# Altium integrated library Elantec Interface Servo Motor Controller.IntLib: 8 symbols
Pins are listed as number, name and electrical type; pins without a type are passive.

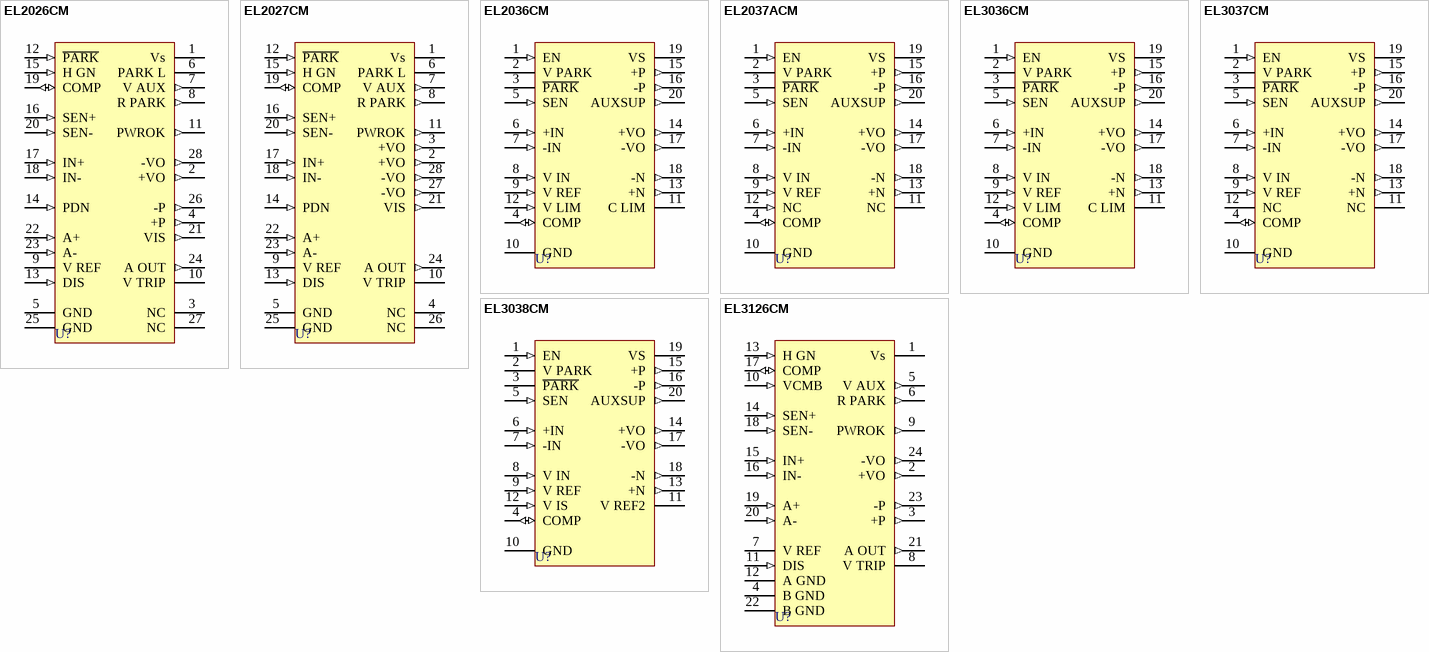
[diagram p0: symbols EL2026CM to EL3126CM]

## EL2026CM
designator U?
Low Voltage Servo Motor Driver; Note: Pins 3 and 27 are No Connection; Published: 8-Jun-2000; LatestRevisionDate: 13-Apr-2006; LatestRevisionNote: IPC-7351 Footprint Added.; DatasheetVersion: Jul-1992; PackageReference: SOL-28; Publisher: Altium Limited; PackageDescription: 28-Pin Small Outline Integrated Circuit 1.27 mm Pitch; ComponentLink1Description: Manufacturer Link; ComponentLink1URL: http://www.intersil.com/cda/home/
footprint SOL-28_N (SOIC, 28-Leads, Body 17.9x7.5mm, Pitch 1.27mm, IPC Medium Density)
footprint SOL-28_L (SOIC, 28-Leads, Body 17.9x7.5mm, Pitch 1.27mm, IPC High Density)
footprint SOL-28_M (SOIC, 28-Leads, Body 17.9x7.5mm, Pitch 1.27mm, IPC Low Density)
3D model SOL-28 (28-Pin Small Outline Integrated Circuit 1.27 mm Pitch)
pins: 1 Vs (power), 2 +VO (out), 3 NC, 4 +P (out), 5 GND (power), 6 PARK L (oc), 7 V AUX (out), 8 R PARK (out), 9 V REF, 10 V TRIP, 11 PWROK (out), 12 ~{PARK} (in), 13 DIS (in), 14 PDN (in), 15 H GN (in), 16 SEN+ (in), 17 IN+ (in), 18 IN- (in), 19 COMP (io), 20 SEN- (in), 21 VIS (out), 22 A+ (in), 23 A- (in), 24 A OUT (out), 25 GND (power), 26 -P (out), 27 NC, 28 -VO (out)

## EL2027CM
designator U?
Low Voltage Servo Motor Driver; Note: Pins 4 and 26 must be open.; Published: 8-Jun-2000; LatestRevisionDate: 13-Apr-2006; LatestRevisionNote: IPC-7351 Footprint Added.; DatasheetVersion: Jul-1992; PackageReference: SOL-28; Publisher: Altium Limited; PackageDescription: 28-Pin Small Outline Integrated Circuit 1.27 mm Pitch; ComponentLink1Description: Manufacturer Link; ComponentLink1URL: http://www.intersil.com/cda/home/
footprint SOL-28_N (SOIC, 28-Leads, Body 17.9x7.5mm, Pitch 1.27mm, IPC Medium Density)
footprint SOL-28_L (SOIC, 28-Leads, Body 17.9x7.5mm, Pitch 1.27mm, IPC High Density)
footprint SOL-28_M (SOIC, 28-Leads, Body 17.9x7.5mm, Pitch 1.27mm, IPC Low Density)
3D model SOL-28 (28-Pin Small Outline Integrated Circuit 1.27 mm Pitch)
pins: 1 Vs (power), 2 +VO (out), 3 +VO (out), 4 NC, 5 GND (power), 6 PARK L (oc), 7 V AUX (out), 8 R PARK (out), 9 V REF, 10 V TRIP, 11 PWROK (out), 12 ~{PARK} (in), 13 DIS (in), 14 PDN (in), 15 H GN (in), 16 SEN+ (in), 17 IN+ (in), 18 IN- (in), 19 COMP (io), 20 SEN- (in), 21 VIS (out), 22 A+ (in), 23 A- (in), 24 A OUT (out), 25 GND (power), 26 NC, 27 -VO (out), 28 -VO (out)

## EL2036CM
designator U?
Servo Motor Driver; Published: 8-Jun-2000; LatestRevisionDate: 13-Apr-2006; LatestRevisionNote: IPC-7351 Footprint Added.; DatasheetVersion: Apr-1992; PackageReference: SOL-20; Publisher: Altium Limited; PackageDescription: 20-Pin Small Outline Integrated Circuit 1.27 mm Pitch; ComponentLink1Description: Manufacturer Link; ComponentLink1URL: http://www.intersil.com/cda/home/
footprint SOL-20_N (SOIC, 20-Leads, Body 12.8x7.5mm, Pitch 1.27mm, IPC Medium Density)
footprint SOL-20_L (SOIC, 20-Leads, Body 12.8x7.5mm, Pitch 1.27mm, IPC High Density)
footprint SOL-20_M (SOIC, 20-Leads, Body 12.8x7.5mm, Pitch 1.27mm, IPC Low Density)
3D model SOL-20 (20-Pin Small Outline Integrated Circuit 1.27 mm Pitch)
pins: 1 EN (in), 2 V PARK, 3 ~{PARK}, 4 COMP (io), 5 SEN (in), 6 +IN (in), 7 -IN (in), 8 V IN (in), 9 V REF (in), 10 GND (power), 11 C LIM, 12 V LIM (in), 13 +N (out), 14 +VO (out), 15 +P (out), 16 -P (out), 17 -VO (out), 18 -N (out), 19 VS (power), 20 AUXSUP (out)

## EL2037ACM
designator U?
Servo Motor Driver; Note: Pins 11,12 are No Connection; Published: 8-Jun-2000; LatestRevisionDate: 13-Apr-2006; LatestRevisionNote: IPC-7351 Footprint Added.; DatasheetVersion: Apr-1992; PackageReference: SOL-20; Publisher: Altium Limited; PackageDescription: 20-Pin Small Outline Integrated Circuit 1.27 mm Pitch; ComponentLink1Description: Manufacturer Link; ComponentLink1URL: http://www.intersil.com/cda/home/
footprint SOL-20_N (SOIC, 20-Leads, Body 12.8x7.5mm, Pitch 1.27mm, IPC Medium Density)
footprint SOL-20_L (SOIC, 20-Leads, Body 12.8x7.5mm, Pitch 1.27mm, IPC High Density)
footprint SOL-20_M (SOIC, 20-Leads, Body 12.8x7.5mm, Pitch 1.27mm, IPC Low Density)
3D model SOL-20 (20-Pin Small Outline Integrated Circuit 1.27 mm Pitch)
pins: 1 EN (in), 2 V PARK, 3 ~{PARK}, 4 COMP (io), 5 SEN (in), 6 +IN (in), 7 -IN (in), 8 V IN (in), 9 V REF (in), 10 GND (power), 11 NC, 12 NC (in), 13 +N (out), 14 +VO (out), 15 +P (out), 16 -P (out), 17 -VO (out), 18 -N (out), 19 VS (power), 20 AUXSUP (out)

## EL3036CM
designator U?
2 Amp Precision Servo Motor Driver; Published: 8-Jun-2000; LatestRevisionDate: 13-Apr-2006; LatestRevisionNote: IPC-7351 Footprint Added.; DatasheetVersion: Aug-1992; PackageReference: SOL-20; Publisher: Altium Limited; PackageDescription: 20-Pin Small Outline Integrated Circuit 1.27 mm Pitch; ComponentLink1Description: Manufacturer Link; ComponentLink1URL: http://www.intersil.com/cda/home/
footprint SOL-20_N (SOIC, 20-Leads, Body 12.8x7.5mm, Pitch 1.27mm, IPC Medium Density)
footprint SOL-20_L (SOIC, 20-Leads, Body 12.8x7.5mm, Pitch 1.27mm, IPC High Density)
footprint SOL-20_M (SOIC, 20-Leads, Body 12.8x7.5mm, Pitch 1.27mm, IPC Low Density)
3D model SOL-20 (20-Pin Small Outline Integrated Circuit 1.27 mm Pitch)
pins: 1 EN (in), 2 V PARK, 3 ~{PARK}, 4 COMP (io), 5 SEN (in), 6 +IN (in), 7 -IN (in), 8 V IN (in), 9 V REF (in), 10 GND (power), 11 C LIM, 12 V LIM (in), 13 +N (out), 14 +VO (out), 15 +P (out), 16 -P (out), 17 -VO (out), 18 -N (out), 19 VS (power), 20 AUXSUP (out)

## EL3037CM
designator U?
2 Amp Precision Servo Motor Driver; Note: Pins 11,12 are No Connection; Published: 8-Jun-2000; LatestRevisionDate: 13-Apr-2006; LatestRevisionNote: IPC-7351 Footprint Added.; DatasheetVersion: Aug-1992; PackageReference: SOL-20; Publisher: Altium Limited; PackageDescription: 20-Pin Small Outline Integrated Circuit 1.27 mm Pitch; ComponentLink1Description: Manufacturer Link; ComponentLink1URL: http://www.intersil.com/cda/home/
footprint SOL-20_N (SOIC, 20-Leads, Body 12.8x7.5mm, Pitch 1.27mm, IPC Medium Density)
footprint SOL-20_L (SOIC, 20-Leads, Body 12.8x7.5mm, Pitch 1.27mm, IPC High Density)
footprint SOL-20_M (SOIC, 20-Leads, Body 12.8x7.5mm, Pitch 1.27mm, IPC Low Density)
3D model SOL-20 (20-Pin Small Outline Integrated Circuit 1.27 mm Pitch)
pins: 1 EN (in), 2 V PARK, 3 ~{PARK}, 4 COMP (io), 5 SEN (in), 6 +IN (in), 7 -IN (in), 8 V IN (in), 9 V REF (in), 10 GND (power), 11 NC, 12 NC, 13 +N (out), 14 +VO (out), 15 +P (out), 16 -P (out), 17 -VO (out), 18 -N (out), 19 VS (power), 20 AUXSUP (out)

## EL3038CM
designator U?
2 Amp Precision Servo Motor Driver; Published: 8-Jun-2000; LatestRevisionDate: 13-Apr-2006; LatestRevisionNote: IPC-7351 Footprint Added.; DatasheetVersion: Aug-1992; PackageReference: SOL-20; Publisher: Altium Limited; PackageDescription: 20-Pin Small Outline Integrated Circuit 1.27 mm Pitch; ComponentLink1Description: Manufacturer Link; ComponentLink1URL: http://www.intersil.com/cda/home/
footprint SOL-20_N (SOIC, 20-Leads, Body 12.8x7.5mm, Pitch 1.27mm, IPC Medium Density)
footprint SOL-20_L (SOIC, 20-Leads, Body 12.8x7.5mm, Pitch 1.27mm, IPC High Density)
footprint SOL-20_M (SOIC, 20-Leads, Body 12.8x7.5mm, Pitch 1.27mm, IPC Low Density)
3D model SOL-20 (20-Pin Small Outline Integrated Circuit 1.27 mm Pitch)
pins: 1 EN (in), 2 V PARK, 3 ~{PARK}, 4 COMP (io), 5 SEN (in), 6 +IN (in), 7 -IN (in), 8 V IN (in), 9 V REF (in), 10 GND (power), 11 V REF2, 12 V IS (in), 13 +N (out), 14 +VO (out), 15 +P (out), 16 -P (out), 17 -VO (out), 18 -N (out), 19 VS (power), 20 AUXSUP (out)

## EL3126CM
designator U?
Low Voltage Servo Motor Driver; Published: 8-Jun-2000; LatestRevisionDate: 13-Apr-2006; LatestRevisionNote: IPC-7351 Footprint Added.; DatasheetVersion: Aug-1992; PackageReference: SOL-24; Publisher: Altium Limited; PackageDescription: 24-Pin Small Outline Integrated Circuit 1.27 mm Pitch; ComponentLink1Description: Manufacturer Link; ComponentLink1URL: http://www.intersil.com/cda/home/
footprint SOL-24_N (SOIC, 24-Leads, Body 15.4x7.5mm, Pitch 1.27mm, IPC Medium Density)
footprint SOL-24_L (SOIC, 24-Leads, Body 15.4x7.5mm, Pitch 1.27mm, IPC High Density)
footprint SOL-24_M (SOIC, 24-Leads, Body 15.4x7.5mm, Pitch 1.27mm, IPC Low Density)
3D model SOL-24 (24-Pin Small Outline Integrated Circuit 1.27 mm Pitch)
pins: 1 Vs (power), 2 +VO (out), 3 +P (out), 4 B GND (power), 5 V AUX (out), 6 R PARK (out), 7 V REF, 8 V TRIP, 9 PWROK (out), 10 VCMB (in), 11 DIS (in), 12 A GND, 13 H GN (in), 14 SEN+ (in), 15 IN+ (in), 16 IN- (in), 17 COMP (io), 18 SEN- (in), 19 A+ (in), 20 A- (in), 21 A OUT (out), 22 B GND (power), 23 -P (out), 24 -VO (out)